# EAGLE library part DSPIC24EP256GU810 (library microchip)
dsPIC33EP256MU810
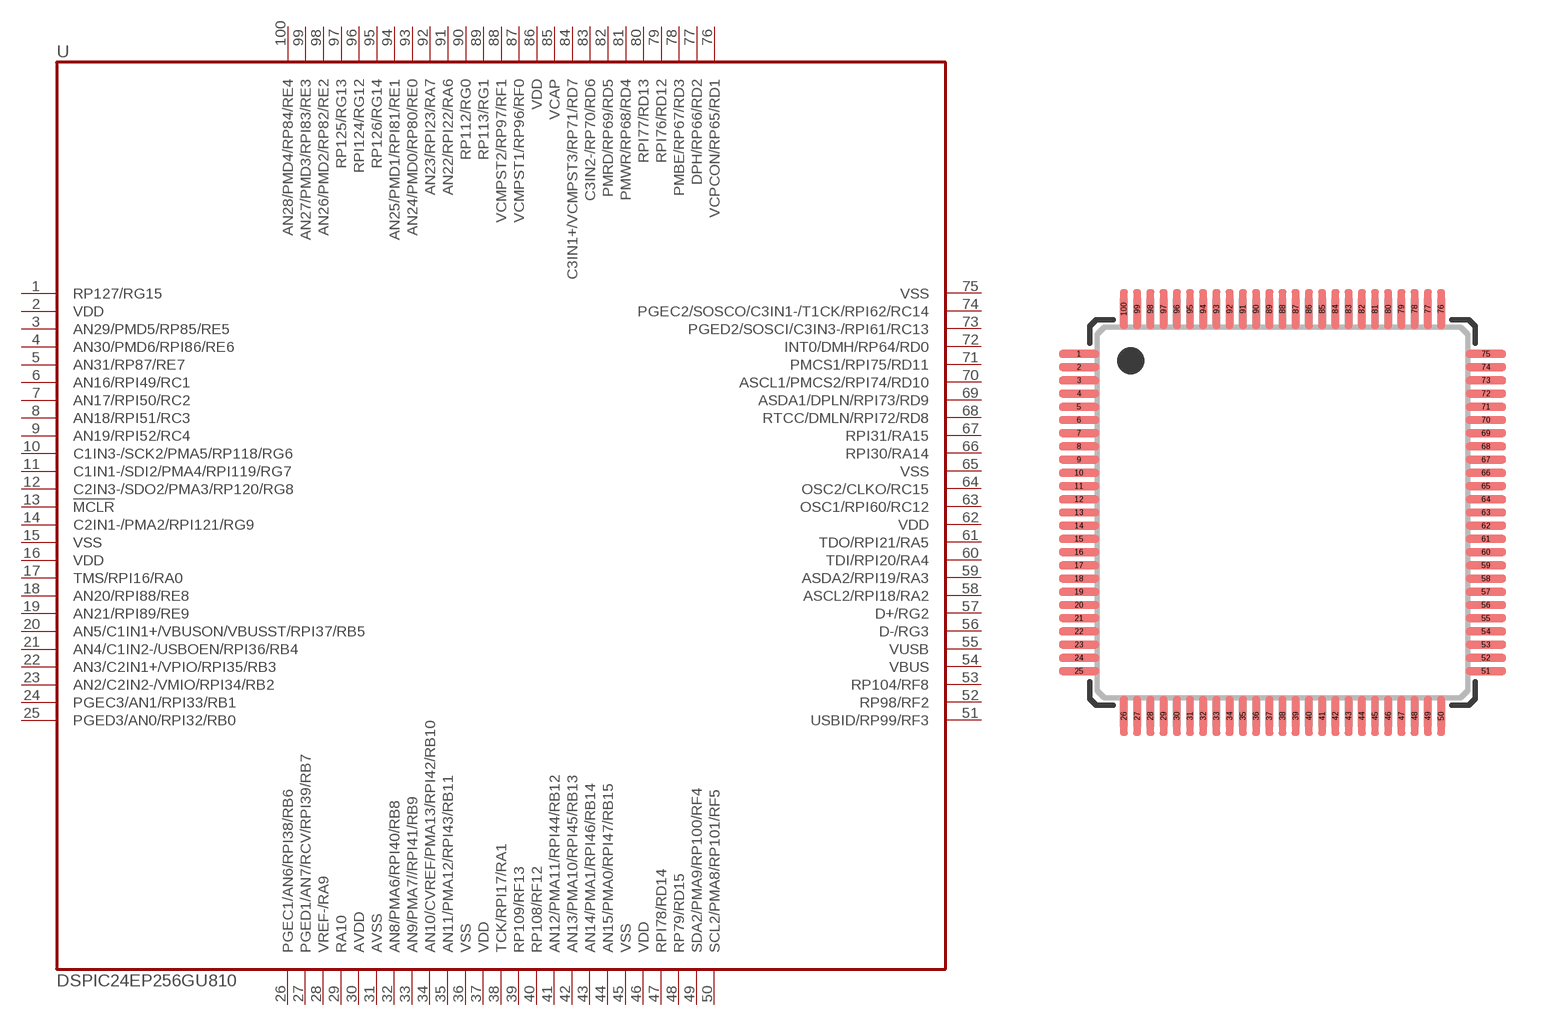
[diagram p141: symbol with the pads of TQFP100; footprint TQFP100]

Designator prefix U

## DSPIC24EP256GU810  [TQFP100]
1  RP127/RG15
2  VDD  pwr
3  AN29/PMD5/RP85/RE5
4  AN30/PMD6/RPI86/RE6
5  AN31/RP87/RE7
6  AN16/RPI49/RC1
7  AN17/RPI50/RC2
8  AN18/RPI51/RC3
9  AN19/RPI52/RC4
10  C1IN3-/SCK2/PMA5/RP118/RG6
11  C1IN1-/SDI2/PMA4/RPI119/RG7
12  C2IN3-/SDO2/PMA3/RP120/RG8
13  !MCLR!
14  C2IN1-/PMA2/RPI121/RG9
15  VSS  pwr
16  VDD  pwr
17  TMS/RPI16/RA0
18  AN20/RPI88/RE8
19  AN21/RPI89/RE9
20  AN5/C1IN1+/VBUSON/VBUSST/RPI37/RB5
21  AN4/C1IN2-/USBOEN/RPI36/RB4
22  AN3/C2IN1+/VPIO/RPI35/RB3
23  AN2/C2IN2-/VMIO/RPI34/RB2
24  PGEC3/AN1/RPI33/RB1
25  PGED3/AN0/RPI32/RB0
26  PGEC1/AN6/RPI38/RB6
27  PGED1/AN7/RCV/RPI39/RB7
28  VREF-/RA9
29  RA10
30  AVDD  pwr
31  AVSS  pwr
32  AN8/PMA6/RPI40/RB8
33  AN9/PMA7//RPI41/RB9
34  AN10/CVREF/PMA13/RPI42/RB10
35  AN11/PMA12/RPI43/RB11
36  VSS  pwr
37  VDD  pwr
38  TCK/RPI17/RA1
39  RP109/RF13
40  RP108/RF12
41  AN12/PMA11/RPI44/RB12
42  AN13/PMA10/RPI45/RB13
43  AN14/PMA1/RPI46/RB14
44  AN15/PMA0/RPI47/RB15
45  VSS  pwr
46  VDD  pwr
47  RPI78/RD14
48  RP79/RD15
49  SDA2/PMA9/RP100/RF4
50  SCL2/PMA8/RP101/RF5
51  USBID/RP99/RF3
52  RP98/RF2
53  RP104/RF8
54  VBUS  pas
55  VUSB  pas
56  D-/RG3
57  D+/RG2
58  ASCL2/RPI18/RA2
59  ASDA2/RPI19/RA3
60  TDI/RPI20/RA4
61  TDO/RPI21/RA5  out
62  VDD  pwr
63  OSC1/RPI60/RC12
64  OSC2/CLKO/RC15
65  VSS  pwr
66  RPI30/RA14
67  RPI31/RA15
68  RTCC/DMLN/RPI72/RD8
69  ASDA1/DPLN/RPI73/RD9
70  ASCL1/PMCS2/RPI74/RD10
71  PMCS1/RPI75/RD11
72  INT0/DMH/RP64/RD0
73  PGED2/SOSCI/C3IN3-/RPI61/RC13
74  PGEC2/SOSCO/C3IN1-/T1CK/RPI62/RC14
75  VSS  pwr
76  VCPCON/RP65/RD1
77  DPH/RP66/RD2
78  PMBE/RP67/RD3
79  RPI76/RD12
80  RPI77/RD13
81  PMWR/RP68/RD4
82  PMRD/RP69/RD5
83  C3IN2-/RP70/RD6
84  C3IN1+/VCMPST3/RP71/RD7
85  VCAP  pwr
86  VDD  pwr
87  VCMPST1/RP96/RF0
88  VCMPST2/RP97/RF1
89  RP113/RG1
90  RP112/RG0
91  AN22/RPI22/RA6
92  AN23/RPI23/RA7
93  AN24/PMD0/RP80/RE0
94  AN25/PMD1/RPI81/RE1
95  RP126/RG14
96  RPI124/RG12
97  RP125/RG13
98  AN26/PMD2/RP82/RE2
99  AN27/PMD3/RPI83/RE3
100  AN28/PMD4/RP84/RE4

## Footprint TQFP100 (pad centres in mm)
Plastic Thin Quad Flat Pack
smd 1.5 x 0.3: 1 -7.7,6; 2 -7.7,5.5; 3 -7.7,5; 4 -7.7,4.5; 5 -7.7,4; 6 -7.7,3.5; 7 -7.7,3; 8 -7.7,2.5; 9 -7.7,2; 10 -7.7,1.5; 11 -7.7,1; 12 -7.7,0.5; 13 -7.7,0; 14 -7.7,-0.5; 15 -7.7,-1; 16 -7.7,-1.5; 17 -7.7,-2; 18 -7.7,-2.5; 19 -7.7,-3; 20 -7.7,-3.5; 21 -7.7,-4; 22 -7.7,-4.5; 23 -7.7,-5; 24 -7.7,-5.5; 25 -7.7,-6; 51 7.7,-6; 52 7.7,-5.5; 53 7.7,-5; 54 7.7,-4.5; 55 7.7,-4; 56 7.7,-3.5; 57 7.7,-3; 58 7.7,-2.5; 59 7.7,-2; 60 7.7,-1.5; 61 7.7,-1; 62 7.7,-0.5; 63 7.7,0; 64 7.7,0.5; 65 7.7,1; 66 7.7,1.5; 67 7.7,2; 68 7.7,2.5; 69 7.7,3; 70 7.7,3.5; 71 7.7,4; 72 7.7,4.5; 73 7.7,5; 74 7.7,5.5; 75 7.7,6
smd 0.3 x 1.5: 26 -6,-7.7; 27 -5.5,-7.7; 28 -5,-7.7; 29 -4.5,-7.7; 30 -4,-7.7; 31 -3.5,-7.7; 32 -3,-7.7; 33 -2.5,-7.7; 34 -2,-7.7; 35 -1.5,-7.7; 36 -1,-7.7; 37 -0.5,-7.7; 38 0,-7.7; 39 0.5,-7.7; 40 1,-7.7; 41 1.5,-7.7; 42 2,-7.7; 43 2.5,-7.7; 44 3,-7.7; 45 3.5,-7.7; 46 4,-7.7; 47 4.5,-7.7; 48 5,-7.7; 49 5.5,-7.7; 50 6,-7.7; 76 6,7.7; 77 5.5,7.7; 78 5,7.7; 79 4.5,7.7; 80 4,7.7; 81 3.5,7.7; 82 3,7.7; 83 2.5,7.7; 84 2,7.7; 85 1.5,7.7; 86 1,7.7; 87 0.5,7.7; 88 0,7.7; 89 -0.5,7.7; 90 -1,7.7; 91 -1.5,7.7; 92 -2,7.7; 93 -2.5,7.7; 94 -3,7.7; 95 -3.5,7.7; 96 -4,7.7; 97 -4.5,7.7; 98 -5,7.7; 99 -5.5,7.7; 100 -6,7.7